# EAGLE library part MP65150DGT (library Domino)
Precision 60mA-1.7A Programmable Current-Limited Power Distribution Switch
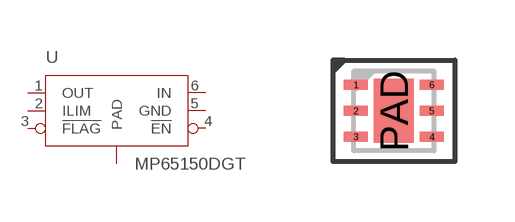
[diagram p22: symbol with the pads of TQFN6_EP; footprint TQFN6_EP]

Designator prefix U

## MP65150DGT  [TQFN6_EP]
1  OUT  sup
2  ILIM  pas
3  !FLAG  oc
4  !EN  in
5  GND  pwr
6  IN  pwr
PAD  PAD  pwr

## Footprint TQFN6_EP (pad centres in mm)
Thin Quad Flat No-lead Package (QFN), 6 Pins, Exposed Pad, 2 x 2 mm Body
smd 0.6 x 0.25: 1 -0.95,0.65; 2 -0.95,0; 3 -0.95,-0.65; 4 0.95,-0.65; 5 0.95,0; 6 0.95,0.65
smd 1 x 1.6: PAD 0,0